# EAGLE library part BM08B-ZESS (library tiva)
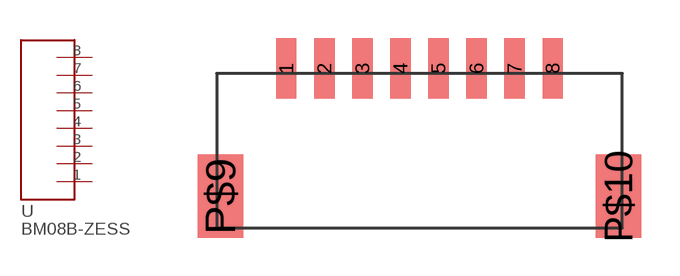
[diagram p3: symbol with the pads of BM08B-ZESS; footprint BM08B-ZESS]

Designator prefix -

## BM08B-ZESS  [BM08B-ZESS]
1  P$1
2  P$2
3  P$3
4  P$4
5  P$5
6  P$6
7  P$7
8  P$8

## Footprint BM08B-ZESS (pad centres in mm)
smd 0.8 x 2.4: 1 -5.25,6.7; 2 -3.75,6.7; 3 -2.25,6.7; 4 -0.75,6.7; 5 0.75,6.7; 6 2.25,6.7; 7 3.75,6.7; 8 5.25,6.7
smd 1.8 x 3.3: P$9 -7.85,1.65; P$10 7.85,1.65